# Altium footprint library TI - ADC.PcbLib: 213 footprints (part 8 of 14)
Each footprint in its own frame and in the unit in brackets; x right, y up, seen from the top. Pads: shape width x height; smd on the part's side, far side on the other; paste and mask are expansions set on the pad; w line width, h text height; cw(c..) or ccw(c..) is an arc to the next point about the centre after c.
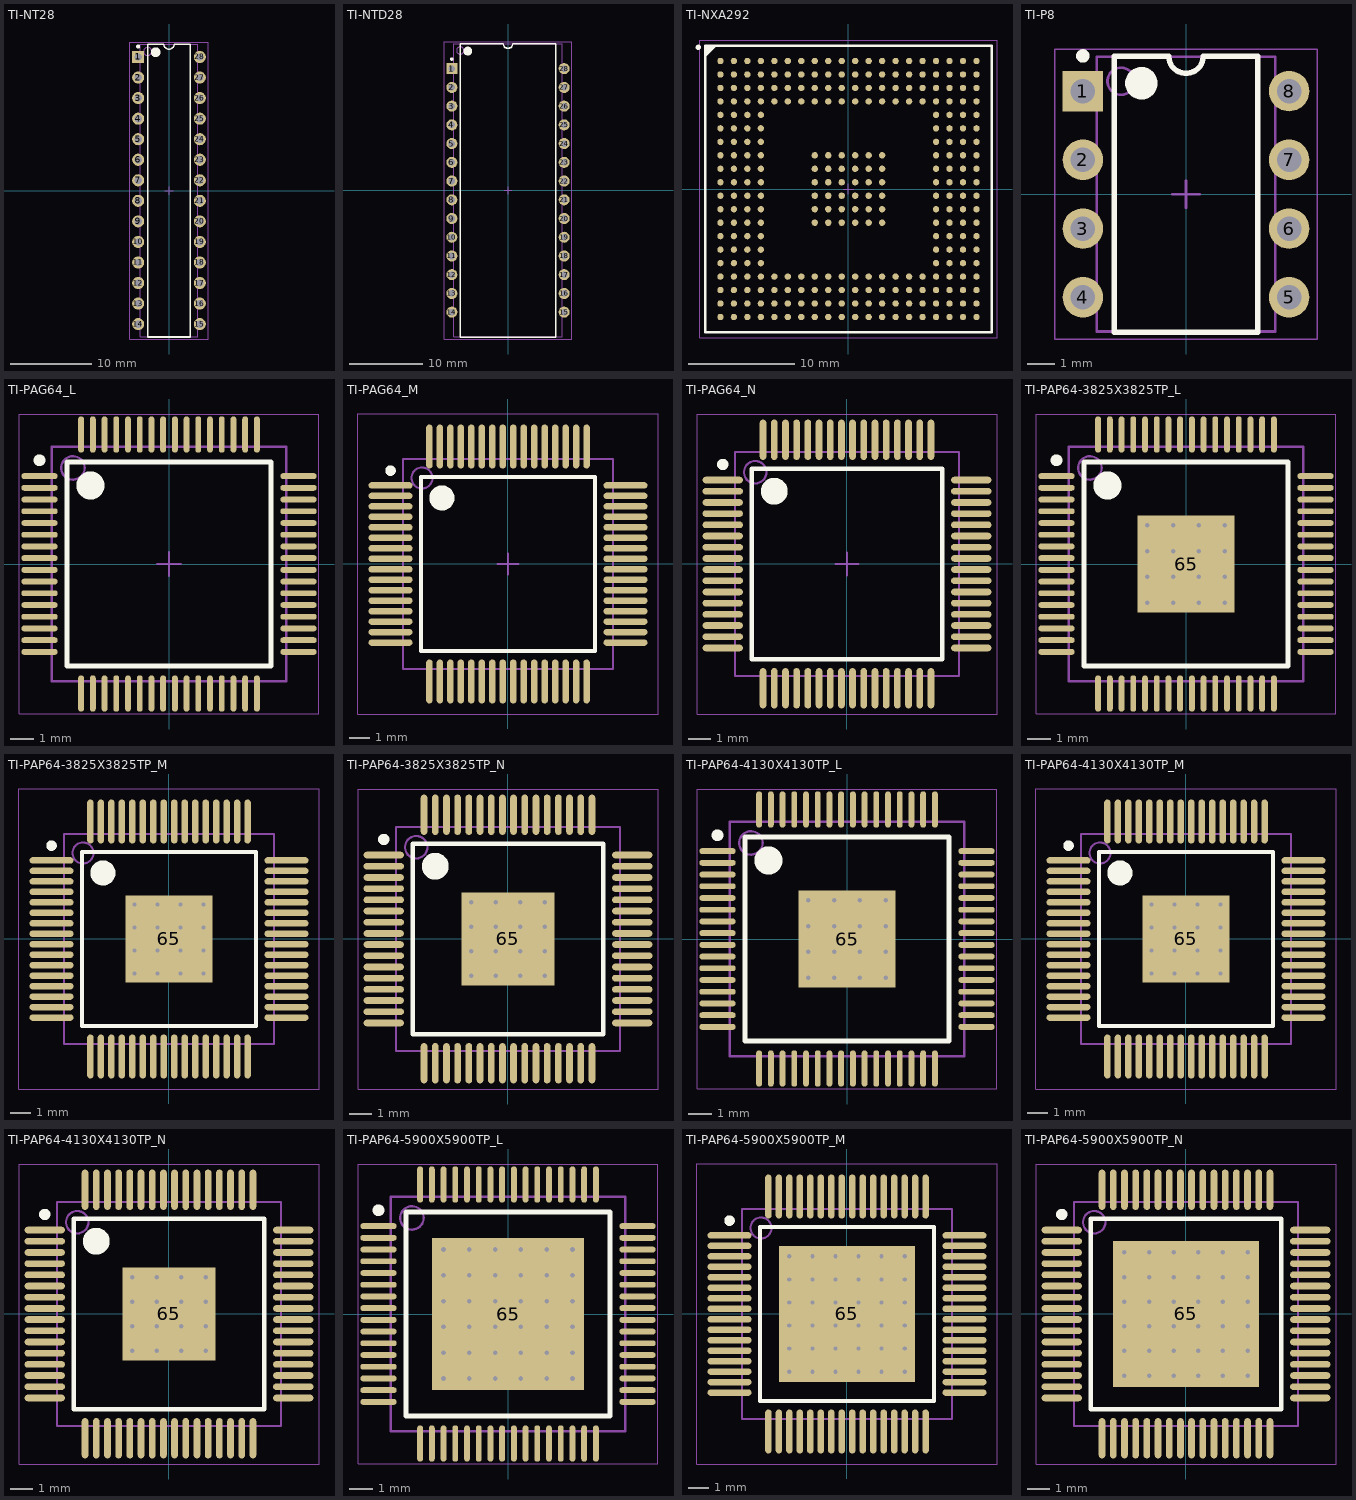
[diagram p7: the footprints below, top view; thin cyan lines are the x and y axes]

## TI-NT28 [mm] "DIP, 28-Leads, Body 35.69x6.73mm, Pitch 2.54mm"
height 5.08
pads (28):
  rect 1.5x1.5 hole 0.9: 1(-3.81,16.51)
  round 1.5 hole 0.9: 2(-3.81,13.97) 3(-3.81,11.43) 4(-3.81,8.89) 5(-3.81,6.35) 6(-3.81,3.81) 7(-3.81,1.27) 8(-3.81,-1.27) 9(-3.81,-3.81) 10(-3.81,-6.35) 11(-3.81,-8.89) 12(-3.81,-11.43) 13(-3.81,-13.97) 14(-3.81,-16.51) 15(3.81,-16.51) 16(3.81,-13.97) 17(3.81,-11.43) 18(3.81,-8.89) 19(3.81,-6.35) 20(3.81,-3.81) 21(3.81,-1.27) 22(3.81,1.27) 23(3.81,3.81) 24(3.81,6.35) 25(3.81,8.89) 26(3.81,11.43) 27(3.81,13.97) 28(3.81,16.51)
Top Overlay:
  circle w0.25: c-3.81,17.81 r0.125
  circle w0.6: c-1.65,17.1 r0.3
  lines w0.2: -2.65,-18.1 -2.65,18.1 -0.635,18.1 ccw(c0,18.1) 0.635,18.1 2.65,18.1 2.65,-18.1 -2.65,-18.1
Mechanical 13:
  circle w0.1: c-2.65,17.2 r0.5
  lines w0.1: -3.55,-18.1 -3.55,18.1 3.55,18.1 3.55,-18.1 -3.55,-18.1
Mechanical 15:
  lines w0.05: -4.85,-18.35 -4.85,18.35 4.85,18.35 4.85,-18.35 -4.85,-18.35
  lines w0.1: -0.5,0 0.5,0 ; 0,-0.5 0,0.5
3D body: height 2.66, standoff 0, extent -3.945,16.01 -3.675,17.01
3D body: height 2.93, standoff 2.66, extent -3.945,16.01 -3.55,17.01
3D body: height 0, standoff -1.6, extent -3.945,16.15 -3.675,16.87
3D body: height 2.66, standoff 0, extent -3.945,13.47 -3.675,14.47
3D body: height 2.93, standoff 2.66, extent -3.945,13.47 -3.55,14.47
3D body: height 0, standoff -1.6, extent -3.945,13.61 -3.675,14.33
3D body: height 2.66, standoff 0, extent -3.945,10.93 -3.675,11.93
3D body: height 2.93, standoff 2.66, extent -3.945,10.93 -3.55,11.93
3D body: height 0, standoff -1.6, extent -3.945,11.07 -3.675,11.79
3D body: height 2.66, standoff 0, extent -3.945,8.39 -3.675,9.39
3D body: height 2.93, standoff 2.66, extent -3.945,8.39 -3.55,9.39
3D body: height 0, standoff -1.6, extent -3.945,8.53 -3.675,9.25
3D body: height 2.66, standoff 0, extent -3.945,5.85 -3.675,6.85
3D body: height 2.93, standoff 2.66, extent -3.945,5.85 -3.55,6.85
3D body: height 0, standoff -1.6, extent -3.945,5.99 -3.675,6.71
3D body: height 2.66, standoff 0, extent -3.945,3.31 -3.675,4.31
3D body: height 2.93, standoff 2.66, extent -3.945,3.31 -3.55,4.31
3D body: height 0, standoff -1.6, extent -3.945,3.45 -3.675,4.17
3D body: height 2.66, standoff 0, extent -3.945,0.77 -3.675,1.77
3D body: height 2.93, standoff 2.66, extent -3.945,0.77 -3.55,1.77
3D body: height 0, standoff -1.6, extent -3.945,0.91 -3.675,1.63
3D body: height 2.66, standoff 0, extent -3.945,-1.77 -3.675,-0.77
3D body: height 2.93, standoff 2.66, extent -3.945,-1.77 -3.55,-0.77
3D body: height 0, standoff -1.6, extent -3.945,-1.63 -3.675,-0.91
3D body: height 2.66, standoff 0, extent -3.945,-4.31 -3.675,-3.31
3D body: height 2.93, standoff 2.66, extent -3.945,-4.31 -3.55,-3.31
3D body: height 0, standoff -1.6, extent -3.945,-4.17 -3.675,-3.45
3D body: height 2.66, standoff 0, extent -3.945,-6.85 -3.675,-5.85
3D body: height 2.93, standoff 2.66, extent -3.945,-6.85 -3.55,-5.85
3D body: height 0, standoff -1.6, extent -3.945,-6.71 -3.675,-5.99
3D body: height 2.66, standoff 0, extent -3.945,-9.39 -3.675,-8.39
3D body: height 2.93, standoff 2.66, extent -3.945,-9.39 -3.55,-8.39
3D body: height 0, standoff -1.6, extent -3.945,-9.25 -3.675,-8.53
3D body: height 2.66, standoff 0, extent -3.945,-11.93 -3.675,-10.93
3D body: height 2.93, standoff 2.66, extent -3.945,-11.93 -3.55,-10.93
3D body: height 0, standoff -1.6, extent -3.945,-11.79 -3.675,-11.07
3D body: height 2.66, standoff 0, extent -3.945,-14.47 -3.675,-13.47
3D body: height 2.93, standoff 2.66, extent -3.945,-14.47 -3.55,-13.47
3D body: height 0, standoff -1.6, extent -3.945,-14.33 -3.675,-13.61
3D body: height 2.66, standoff 0, extent -3.945,-17.01 -3.675,-16.01
3D body: height 2.93, standoff 2.66, extent -3.945,-17.01 -3.55,-16.01
3D body: height 0, standoff -1.6, extent -3.945,-16.87 -3.675,-16.15
3D body: height 2.66, standoff 0, extent 3.675,-17.01 3.945,-16.01
3D body: height 2.93, standoff 2.66, extent 3.55,-17.01 3.945,-16.01
3D body: height 0, standoff -1.6, extent 3.675,-16.87 3.945,-16.15
3D body: height 2.66, standoff 0, extent 3.675,-14.47 3.945,-13.47
3D body: height 2.93, standoff 2.66, extent 3.55,-14.47 3.945,-13.47
3D body: height 0, standoff -1.6, extent 3.675,-14.33 3.945,-13.61
3D body: height 2.66, standoff 0, extent 3.675,-11.93 3.945,-10.93
3D body: height 2.93, standoff 2.66, extent 3.55,-11.93 3.945,-10.93
3D body: height 0, standoff -1.6, extent 3.675,-11.79 3.945,-11.07
3D body: height 2.66, standoff 0, extent 3.675,-9.39 3.945,-8.39
3D body: height 2.93, standoff 2.66, extent 3.55,-9.39 3.945,-8.39
3D body: height 0, standoff -1.6, extent 3.675,-9.25 3.945,-8.53
3D body: height 2.66, standoff 0, extent 3.675,-6.85 3.945,-5.85
3D body: height 2.93, standoff 2.66, extent 3.55,-6.85 3.945,-5.85
3D body: height 0, standoff -1.6, extent 3.675,-6.71 3.945,-5.99
3D body: height 2.66, standoff 0, extent 3.675,-4.31 3.945,-3.31
3D body: height 2.93, standoff 2.66, extent 3.55,-4.31 3.945,-3.31
3D body: height 0, standoff -1.6, extent 3.675,-4.17 3.945,-3.45
3D body: height 2.66, standoff 0, extent 3.675,-1.77 3.945,-0.77
3D body: height 2.93, standoff 2.66, extent 3.55,-1.77 3.945,-0.77
3D body: height 0, standoff -1.6, extent 3.675,-1.63 3.945,-0.91
3D body: height 2.66, standoff 0, extent 3.675,0.77 3.945,1.77
3D body: height 2.93, standoff 2.66, extent 3.55,0.77 3.945,1.77
3D body: height 0, standoff -1.6, extent 3.675,0.91 3.945,1.63
3D body: height 2.66, standoff 0, extent 3.675,3.31 3.945,4.31
3D body: height 2.93, standoff 2.66, extent 3.55,3.31 3.945,4.31
3D body: height 0, standoff -1.6, extent 3.675,3.45 3.945,4.17
3D body: height 2.66, standoff 0, extent 3.675,5.85 3.945,6.85
3D body: height 2.93, standoff 2.66, extent 3.55,5.85 3.945,6.85
3D body: height 0, standoff -1.6, extent 3.675,5.99 3.945,6.71
3D body: height 2.66, standoff 0, extent 3.675,8.39 3.945,9.39
3D body: height 2.93, standoff 2.66, extent 3.55,8.39 3.945,9.39
3D body: height 0, standoff -1.6, extent 3.675,8.53 3.945,9.25
3D body: height 2.66, standoff 0, extent 3.675,10.93 3.945,11.93
3D body: height 2.93, standoff 2.66, extent 3.55,10.93 3.945,11.93
3D body: height 0, standoff -1.6, extent 3.675,11.07 3.945,11.79
3D body: height 2.66, standoff 0, extent 3.675,13.47 3.945,14.47
3D body: height 2.93, standoff 2.66, extent 3.55,13.47 3.945,14.47
3D body: height 0, standoff -1.6, extent 3.675,13.61 3.945,14.33
3D body: height 2.66, standoff 0, extent 3.675,16.01 3.945,17.01
3D body: height 2.93, standoff 2.66, extent 3.55,16.01 3.945,17.01
3D body: height 0, standoff -1.6, extent 3.675,16.15 3.945,16.87
3D body: height 5.08, standoff 0.51, extent -3.55,-18.1 3.55,18.1

## TI-NTD28 [mm] "DIP, 28-Leads, Body 37.4x13.525mm, Pitch 2.54mm"
height 6.35
pads (28):
  rect 1.5x1.5 hole 0.9: 1(-7.62,16.51)
  round 1.5 hole 0.9: 2(-7.62,13.97) 3(-7.62,11.43) 4(-7.62,8.89) 5(-7.62,6.35) 6(-7.62,3.81) 7(-7.62,1.27) 8(-7.62,-1.27) 9(-7.62,-3.81) 10(-7.62,-6.35) 11(-7.62,-8.89) 12(-7.62,-11.43) 13(-7.62,-13.97) 14(-7.62,-16.51) 15(7.62,-16.51) 16(7.62,-13.97) 17(7.62,-11.43) 18(7.62,-8.89) 19(7.62,-6.35) 20(7.62,-3.81) 21(7.62,-1.27) 22(7.62,1.27) 23(7.62,3.81) 24(7.62,6.35) 25(7.62,8.89) 26(7.62,11.43) 27(7.62,13.97) 28(7.62,16.51)
Top Overlay:
  circle w0.25: c-7.62,17.81 r0.125
  circle w0.6: c-5.45,18.9 r0.3
  lines w0.2: -6.45,-19.9 -6.45,19.9 -0.635,19.9 ccw(c0,19.9) 0.635,19.9 6.45,19.9 6.45,-19.9 -6.45,-19.9
Mechanical 13:
  circle w0.1: c-6.475,18.975 r0.5
  lines w0.1: -7.375,-19.875 -7.375,19.875 7.375,19.875 7.375,-19.875 -7.375,-19.875
Mechanical 15:
  lines w0.05: -8.65,-20.15 -8.65,20.15 8.65,20.15 8.65,-20.15 -8.65,-20.15
  lines w0.1: -0.5,0 0.5,0 ; 0,-0.5 0,0.5
3D body: height 3.24, standoff 0, extent -7.755,16.01 -7.485,17.01
3D body: height 3.51, standoff 3.23, extent -7.755,16.01 -7.375,17.01
3D body: height 0, standoff -1.6, extent -7.755,16.15 -7.485,16.87
3D body: height 3.24, standoff 0, extent -7.755,13.47 -7.485,14.47
3D body: height 3.51, standoff 3.23, extent -7.755,13.47 -7.375,14.47
3D body: height 0, standoff -1.6, extent -7.755,13.61 -7.485,14.33
3D body: height 3.24, standoff 0, extent -7.755,10.93 -7.485,11.93
3D body: height 3.51, standoff 3.23, extent -7.755,10.93 -7.375,11.93
3D body: height 0, standoff -1.6, extent -7.755,11.07 -7.485,11.79
3D body: height 3.24, standoff 0, extent -7.755,8.39 -7.485,9.39
3D body: height 3.51, standoff 3.23, extent -7.755,8.39 -7.375,9.39
3D body: height 0, standoff -1.6, extent -7.755,8.53 -7.485,9.25
3D body: height 3.24, standoff 0, extent -7.755,5.85 -7.485,6.85
3D body: height 3.51, standoff 3.23, extent -7.755,5.85 -7.375,6.85
3D body: height 0, standoff -1.6, extent -7.755,5.99 -7.485,6.71
3D body: height 3.24, standoff 0, extent -7.755,3.31 -7.485,4.31
3D body: height 3.51, standoff 3.23, extent -7.755,3.31 -7.375,4.31
3D body: height 0, standoff -1.6, extent -7.755,3.45 -7.485,4.17
3D body: height 3.24, standoff 0, extent -7.755,0.77 -7.485,1.77
3D body: height 3.51, standoff 3.23, extent -7.755,0.77 -7.375,1.77
3D body: height 0, standoff -1.6, extent -7.755,0.91 -7.485,1.63
3D body: height 3.24, standoff 0, extent -7.755,-1.77 -7.485,-0.77
3D body: height 3.51, standoff 3.23, extent -7.755,-1.77 -7.375,-0.77
3D body: height 0, standoff -1.6, extent -7.755,-1.63 -7.485,-0.91
3D body: height 3.24, standoff 0, extent -7.755,-4.31 -7.485,-3.31
3D body: height 3.51, standoff 3.23, extent -7.755,-4.31 -7.375,-3.31
3D body: height 0, standoff -1.6, extent -7.755,-4.17 -7.485,-3.45
3D body: height 3.24, standoff 0, extent -7.755,-6.85 -7.485,-5.85
3D body: height 3.51, standoff 3.23, extent -7.755,-6.85 -7.375,-5.85
3D body: height 0, standoff -1.6, extent -7.755,-6.71 -7.485,-5.99
3D body: height 3.24, standoff 0, extent -7.755,-9.39 -7.485,-8.39
3D body: height 3.51, standoff 3.23, extent -7.755,-9.39 -7.375,-8.39
3D body: height 0, standoff -1.6, extent -7.755,-9.25 -7.485,-8.53
3D body: height 3.24, standoff 0, extent -7.755,-11.93 -7.485,-10.93
3D body: height 3.51, standoff 3.23, extent -7.755,-11.93 -7.375,-10.93
3D body: height 0, standoff -1.6, extent -7.755,-11.79 -7.485,-11.07
3D body: height 3.24, standoff 0, extent -7.755,-14.47 -7.485,-13.47
3D body: height 3.51, standoff 3.23, extent -7.755,-14.47 -7.375,-13.47
3D body: height 0, standoff -1.6, extent -7.755,-14.33 -7.485,-13.61
3D body: height 3.24, standoff 0, extent -7.755,-17.01 -7.485,-16.01
3D body: height 3.51, standoff 3.23, extent -7.755,-17.01 -7.375,-16.01
3D body: height 0, standoff -1.6, extent -7.755,-16.87 -7.485,-16.15
3D body: height 3.24, standoff 0, extent 7.485,-17.01 7.755,-16.01
3D body: height 3.51, standoff 3.23, extent 7.375,-17.01 7.755,-16.01
3D body: height 0, standoff -1.6, extent 7.485,-16.87 7.755,-16.15
3D body: height 3.24, standoff 0, extent 7.485,-14.47 7.755,-13.47
3D body: height 3.51, standoff 3.23, extent 7.375,-14.47 7.755,-13.47
3D body: height 0, standoff -1.6, extent 7.485,-14.33 7.755,-13.61
3D body: height 3.24, standoff 0, extent 7.485,-11.93 7.755,-10.93
3D body: height 3.51, standoff 3.23, extent 7.375,-11.93 7.755,-10.93
3D body: height 0, standoff -1.6, extent 7.485,-11.79 7.755,-11.07
3D body: height 3.24, standoff 0, extent 7.485,-9.39 7.755,-8.39
3D body: height 3.51, standoff 3.23, extent 7.375,-9.39 7.755,-8.39
3D body: height 0, standoff -1.6, extent 7.485,-9.25 7.755,-8.53
3D body: height 3.24, standoff 0, extent 7.485,-6.85 7.755,-5.85
3D body: height 3.51, standoff 3.23, extent 7.375,-6.85 7.755,-5.85
3D body: height 0, standoff -1.6, extent 7.485,-6.71 7.755,-5.99
3D body: height 3.24, standoff 0, extent 7.485,-4.31 7.755,-3.31
3D body: height 3.51, standoff 3.23, extent 7.375,-4.31 7.755,-3.31
3D body: height 0, standoff -1.6, extent 7.485,-4.17 7.755,-3.45
3D body: height 3.24, standoff 0, extent 7.485,-1.77 7.755,-0.77
3D body: height 3.51, standoff 3.23, extent 7.375,-1.77 7.755,-0.77
3D body: height 0, standoff -1.6, extent 7.485,-1.63 7.755,-0.91
3D body: height 3.24, standoff 0, extent 7.485,0.77 7.755,1.77
3D body: height 3.51, standoff 3.23, extent 7.375,0.77 7.755,1.77
3D body: height 0, standoff -1.6, extent 7.485,0.91 7.755,1.63
3D body: height 3.24, standoff 0, extent 7.485,3.31 7.755,4.31
3D body: height 3.51, standoff 3.23, extent 7.375,3.31 7.755,4.31
3D body: height 0, standoff -1.6, extent 7.485,3.45 7.755,4.17
3D body: height 3.24, standoff 0, extent 7.485,5.85 7.755,6.85
3D body: height 3.51, standoff 3.23, extent 7.375,5.85 7.755,6.85
3D body: height 0, standoff -1.6, extent 7.485,5.99 7.755,6.71
3D body: height 3.24, standoff 0, extent 7.485,8.39 7.755,9.39
3D body: height 3.51, standoff 3.23, extent 7.375,8.39 7.755,9.39
3D body: height 0, standoff -1.6, extent 7.485,8.53 7.755,9.25
3D body: height 3.24, standoff 0, extent 7.485,10.93 7.755,11.93
3D body: height 3.51, standoff 3.23, extent 7.375,10.93 7.755,11.93
3D body: height 0, standoff -1.6, extent 7.485,11.07 7.755,11.79
3D body: height 3.24, standoff 0, extent 7.485,13.47 7.755,14.47
3D body: height 3.51, standoff 3.23, extent 7.375,13.47 7.755,14.47
3D body: height 0, standoff -1.6, extent 7.485,13.61 7.755,14.33
3D body: height 3.24, standoff 0, extent 7.485,16.01 7.755,17.01
3D body: height 3.51, standoff 3.23, extent 7.375,16.01 7.755,17.01
3D body: height 0, standoff -1.6, extent 7.485,16.15 7.755,16.87
3D body: height 6.35, standoff 0.38, extent -7.375,-19.875 7.375,19.875

## TI-NXA292 [mm] "BGA, 292-Balls, Body 27x27mm, Pitch 1.27mm"
height 2.58
pads (292):
  round 0.6 smd: A1(-12.065,12.065) A2(-10.795,12.065) A3(-9.525,12.065) A4(-8.255,12.065) A5(-6.985,12.065) A6(-5.715,12.065) A7(-4.445,12.065) A8(-3.175,12.065) A9(-1.905,12.065) A10(-0.635,12.065) A11(0.635,12.065) A12(1.905,12.065) A13(3.175,12.065) A14(4.445,12.065) A15(5.715,12.065) A16(6.985,12.065) A17(8.255,12.065) A18(9.525,12.065) A19(10.795,12.065) A20(12.065,12.065) B1(-12.065,10.795) B2(-10.795,10.795) B3(-9.525,10.795) B4(-8.255,10.795) B5(-6.985,10.795) B6(-5.715,10.795) B7(-4.445,10.795) B8(-3.175,10.795) B9(-1.905,10.795) B10(-0.635,10.795) B11(0.635,10.795) B12(1.905,10.795) B13(3.175,10.795) B14(4.445,10.795) B15(5.715,10.795) B16(6.985,10.795) B17(8.255,10.795) B18(9.525,10.795) B19(10.795,10.795) B20(12.065,10.795) C1(-12.065,9.525) C2(-10.795,9.525) C3(-9.525,9.525) C4(-8.255,9.525) C5(-6.985,9.525) C6(-5.715,9.525) C7(-4.445,9.525) C8(-3.175,9.525) C9(-1.905,9.525) C10(-0.635,9.525) C11(0.635,9.525) C12(1.905,9.525) C13(3.175,9.525) C14(4.445,9.525) C15(5.715,9.525) C16(6.985,9.525) C17(8.255,9.525) C18(9.525,9.525) C19(10.795,9.525) C20(12.065,9.525) D1(-12.065,8.255) D2(-10.795,8.255) D3(-9.525,8.255) D4(-8.255,8.255) D5(-6.985,8.255) D6(-5.715,8.255) D7(-4.445,8.255) D8(-3.175,8.255) D9(-1.905,8.255) D10(-0.635,8.255) D11(0.635,8.255) D12(1.905,8.255) D13(3.175,8.255) D14(4.445,8.255) D15(5.715,8.255) D16(6.985,8.255) D17(8.255,8.255) D18(9.525,8.255) D19(10.795,8.255) D20(12.065,8.255) E1(-12.065,6.985) E2(-10.795,6.985) E3(-9.525,6.985) E4(-8.255,6.985) E17(8.255,6.985) E18(9.525,6.985) E19(10.795,6.985) E20(12.065,6.985) F1(-12.065,5.715) F2(-10.795,5.715) F3(-9.525,5.715) F4(-8.255,5.715) F17(8.255,5.715) F18(9.525,5.715) F19(10.795,5.715) F20(12.065,5.715) G1(-12.065,4.445) G2(-10.795,4.445) G3(-9.525,4.445) G4(-8.255,4.445) G17(8.255,4.445) G18(9.525,4.445) G19(10.795,4.445) G20(12.065,4.445) H1(-12.065,3.175) H2(-10.795,3.175) H3(-9.525,3.175) H4(-8.255,3.175) H8(-3.175,3.175) H9(-1.905,3.175) H10(-0.635,3.175) H11(0.635,3.175) H12(1.905,3.175) H13(3.175,3.175) H17(8.255,3.175) H18(9.525,3.175) H19(10.795,3.175) H20(12.065,3.175) J1(-12.065,1.905) J2(-10.795,1.905) J3(-9.525,1.905) J4(-8.255,1.905) J8(-3.175,1.905) J9(-1.905,1.905) J10(-0.635,1.905) J11(0.635,1.905) J12(1.905,1.905) J13(3.175,1.905) J17(8.255,1.905) J18(9.525,1.905) J19(10.795,1.905) J20(12.065,1.905) K1(-12.065,0.635) K2(-10.795,0.635) K3(-9.525,0.635) K4(-8.255,0.635) K8(-3.175,0.635) K9(-1.905,0.635) K10(-0.635,0.635) K11(0.635,0.635) K12(1.905,0.635) K13(3.175,0.635) K17(8.255,0.635) K18(9.525,0.635) K19(10.795,0.635) K20(12.065,0.635) L1(-12.065,-0.635) L2(-10.795,-0.635) L3(-9.525,-0.635) L4(-8.255,-0.635) L8(-3.175,-0.635) L9(-1.905,-0.635) L10(-0.635,-0.635) L11(0.635,-0.635) L12(1.905,-0.635) L13(3.175,-0.635) L17(8.255,-0.635) L18(9.525,-0.635) L19(10.795,-0.635) L20(12.065,-0.635) M1(-12.065,-1.905) M2(-10.795,-1.905) M3(-9.525,-1.905) M4(-8.255,-1.905) M8(-3.175,-1.905) M9(-1.905,-1.905) M10(-0.635,-1.905) M11(0.635,-1.905) M12(1.905,-1.905) M13(3.175,-1.905) M17(8.255,-1.905) M18(9.525,-1.905) M19(10.795,-1.905) M20(12.065,-1.905) N1(-12.065,-3.175) N2(-10.795,-3.175) N3(-9.525,-3.175) N4(-8.255,-3.175) N8(-3.175,-3.175) N9(-1.905,-3.175) N10(-0.635,-3.175) N11(0.635,-3.175) N12(1.905,-3.175) N13(3.175,-3.175) N17(8.255,-3.175) N18(9.525,-3.175) N19(10.795,-3.175) N20(12.065,-3.175) P1(-12.065,-4.445) P2(-10.795,-4.445) P3(-9.525,-4.445) P4(-8.255,-4.445) P17(8.255,-4.445) P18(9.525,-4.445) P19(10.795,-4.445) P20(12.065,-4.445) R1(-12.065,-5.715) R2(-10.795,-5.715) R3(-9.525,-5.715) R4(-8.255,-5.715) R17(8.255,-5.715) R18(9.525,-5.715) R19(10.795,-5.715) R20(12.065,-5.715) T1(-12.065,-6.985) T2(-10.795,-6.985) T3(-9.525,-6.985) T4(-8.255,-6.985) T17(8.255,-6.985) T18(9.525,-6.985) T19(10.795,-6.985) T20(12.065,-6.985) U1(-12.065,-8.255) U2(-10.795,-8.255) U3(-9.525,-8.255) U4(-8.255,-8.255) U5(-6.985,-8.255) U6(-5.715,-8.255) U7(-4.445,-8.255) U8(-3.175,-8.255) U9(-1.905,-8.255) U10(-0.635,-8.255) U11(0.635,-8.255) U12(1.905,-8.255) U13(3.175,-8.255) U14(4.445,-8.255) U15(5.715,-8.255) U16(6.985,-8.255) U17(8.255,-8.255) U18(9.525,-8.255) U19(10.795,-8.255) U20(12.065,-8.255) V1(-12.065,-9.525) V2(-10.795,-9.525) V3(-9.525,-9.525) V4(-8.255,-9.525) V5(-6.985,-9.525) V6(-5.715,-9.525) V7(-4.445,-9.525) V8(-3.175,-9.525) V9(-1.905,-9.525) V10(-0.635,-9.525) V11(0.635,-9.525) V12(1.905,-9.525) V13(3.175,-9.525) V14(4.445,-9.525) V15(5.715,-9.525) V16(6.985,-9.525) V17(8.255,-9.525) V18(9.525,-9.525) V19(10.795,-9.525) V20(12.065,-9.525) W1(-12.065,-10.795) W2(-10.795,-10.795) W3(-9.525,-10.795) W4(-8.255,-10.795) W5(-6.985,-10.795) W6(-5.715,-10.795) W7(-4.445,-10.795) W8(-3.175,-10.795) W9(-1.905,-10.795) W10(-0.635,-10.795) W11(0.635,-10.795) W12(1.905,-10.795) W13(3.175,-10.795) W14(4.445,-10.795) W15(5.715,-10.795) W16(6.985,-10.795) W17(8.255,-10.795) W18(9.525,-10.795) W19(10.795,-10.795) W20(12.065,-10.795) Y1(-12.065,-12.065) Y2(-10.795,-12.065) Y3(-9.525,-12.065) Y4(-8.255,-12.065) Y5(-6.985,-12.065) Y6(-5.715,-12.065) Y7(-4.445,-12.065) Y8(-3.175,-12.065) Y9(-1.905,-12.065) Y10(-0.635,-12.065) Y11(0.635,-12.065) Y12(1.905,-12.065) Y13(3.175,-12.065) Y14(4.445,-12.065) Y15(5.715,-12.065) Y16(6.985,-12.065) Y17(8.255,-12.065) Y18(9.525,-12.065) Y19(10.795,-12.065) Y20(12.065,-12.065)
Top Overlay:
  circle w0.25: c-14.15,13.35 r0.125
  region: -12.5,13.5 -13.5,12.5 -13.5,13.5
  lines w0.2: -13.5,12.5 -12.5,13.5 ; -13.5,-13.5 13.5,-13.5 13.5,13.5 -13.5,13.5 -13.5,-13.5
Mechanical 13:
  lines w0.1: -13.5,-13.5 13.5,-13.5 13.5,13.5 -13.5,13.5 -13.5,-13.5
Mechanical 15:
  lines w0.05: -14,-14 14,-14 14,14 -14,14 -14,-14
  lines w0.1: -0.5,0 0.5,0 ; 0,-0.5 0,0.5
3D body: height 2.58, standoff 0.5, extent -13.5,-13.5 13.5,13.5

## TI-P8 [mm] "DIP, 8-Leads, Body 9.59x6.35mm, Pitch 2.54mm"
height 5.08
pads (8):
  rect 1.5x1.5 hole 0.9: 1(-3.81,3.81)
  round 1.5 hole 0.9: 2(-3.81,1.27) 3(-3.81,-1.27) 4(-3.81,-3.81) 5(3.81,-3.81) 6(3.81,-1.27) 7(3.81,1.27) 8(3.81,3.81)
Top Overlay:
  circle w0.25: c-3.81,5.11 r0.125
  circle w0.6: c-1.65,4.1 r0.3
  lines w0.2: -2.65,-5.1 -2.65,5.1 -0.635,5.1 ccw(c0,5.1) 0.635,5.1 2.65,5.1 2.65,-5.1 -2.65,-5.1
Mechanical 13:
  circle w0.1: c-2.4,4.175 r0.5
  lines w0.1: -3.3,-5.075 -3.3,5.075 3.3,5.075 3.3,-5.075 -3.3,-5.075
Mechanical 15:
  lines w0.05: -4.85,-5.35 -4.85,5.35 4.85,5.35 4.85,-5.35 -4.85,-5.35
  lines w0.1: -0.5,0 0.5,0 ; 0,-0.5 0,0.5
3D body: height 2.66, standoff 0, extent -3.945,3.31 -3.675,4.31
3D body: height 2.93, standoff 2.66, extent -3.945,3.31 -3.3,4.31
3D body: height 0, standoff -1.6, extent -3.945,3.45 -3.675,4.17
3D body: height 2.66, standoff 0, extent -3.945,0.77 -3.675,1.77
3D body: height 2.93, standoff 2.66, extent -3.945,0.77 -3.3,1.77
3D body: height 0, standoff -1.6, extent -3.945,0.91 -3.675,1.63
3D body: height 2.66, standoff 0, extent -3.945,-1.77 -3.675,-0.77
3D body: height 2.93, standoff 2.66, extent -3.945,-1.77 -3.3,-0.77
3D body: height 0, standoff -1.6, extent -3.945,-1.63 -3.675,-0.91
3D body: height 2.66, standoff 0, extent -3.945,-4.31 -3.675,-3.31
3D body: height 2.93, standoff 2.66, extent -3.945,-4.31 -3.3,-3.31
3D body: height 0, standoff -1.6, extent -3.945,-4.17 -3.675,-3.45
3D body: height 2.66, standoff 0, extent 3.675,-4.31 3.945,-3.31
3D body: height 2.93, standoff 2.66, extent 3.3,-4.31 3.945,-3.31
3D body: height 0, standoff -1.6, extent 3.675,-4.17 3.945,-3.45
3D body: height 2.66, standoff 0, extent 3.675,-1.77 3.945,-0.77
3D body: height 2.93, standoff 2.66, extent 3.3,-1.77 3.945,-0.77
3D body: height 0, standoff -1.6, extent 3.675,-1.63 3.945,-0.91
3D body: height 2.66, standoff 0, extent 3.675,0.77 3.945,1.77
3D body: height 2.93, standoff 2.66, extent 3.3,0.77 3.945,1.77
3D body: height 0, standoff -1.6, extent 3.675,0.91 3.945,1.63
3D body: height 2.66, standoff 0, extent 3.675,3.31 3.945,4.31
3D body: height 2.93, standoff 2.66, extent 3.3,3.31 3.945,4.31
3D body: height 0, standoff -1.6, extent 3.675,3.45 3.945,4.17
3D body: height 5.08, standoff 0.51, extent -3.3,-5.075 3.3,5.075

## TI-PAG64_L [mm] "QFP, 64-Leads, Body 10x10mm, Pitch 0.5mm, IPC High Density"
height 1.2
pads (64):
  oval 1.55x0.25 smd: 1(-5.525,3.75) 2(-5.525,3.25) 3(-5.525,2.75) 4(-5.525,2.25) 5(-5.525,1.75) 6(-5.525,1.25) 7(-5.525,0.75) 8(-5.525,0.25) 9(-5.525,-0.25) 10(-5.525,-0.75) 11(-5.525,-1.25) 12(-5.525,-1.75) 13(-5.525,-2.25) 14(-5.525,-2.75) 15(-5.525,-3.25) 16(-5.525,-3.75) 33(5.525,-3.75) 34(5.525,-3.25) 35(5.525,-2.75) 36(5.525,-2.25) 37(5.525,-1.75) 38(5.525,-1.25) 39(5.525,-0.75) 40(5.525,-0.25) 41(5.525,0.25) 42(5.525,0.75) 43(5.525,1.25) 44(5.525,1.75) 45(5.525,2.25) 46(5.525,2.75) 47(5.525,3.25) 48(5.525,3.75)
  oval 0.25x1.55 smd: 17(-3.75,-5.525) 18(-3.25,-5.525) 19(-2.75,-5.525) 20(-2.25,-5.525) 21(-1.75,-5.525) 22(-1.25,-5.525) 23(-0.75,-5.525) 24(-0.25,-5.525) 25(0.25,-5.525) 26(0.75,-5.525) 27(1.25,-5.525) 28(1.75,-5.525) 29(2.25,-5.525) 30(2.75,-5.525) 31(3.25,-5.525) 32(3.75,-5.525) 49(3.75,5.525) 50(3.25,5.525) 51(2.75,5.525) 52(2.25,5.525) 53(1.75,5.525) 54(1.25,5.525) 55(0.75,5.525) 56(0.25,5.525) 57(-0.25,5.525) 58(-0.75,5.525) 59(-1.25,5.525) 60(-1.75,5.525) 61(-2.25,5.525) 62(-2.75,5.525) 63(-3.25,5.525) 64(-3.75,5.525)
Top Overlay:
  circle w0.25: c-5.525,4.425 r0.125
  circle w0.6: c-3.35,3.35 r0.3
  lines w0.2: -4.35,-4.35 -4.35,4.35 4.35,4.35 4.35,-4.35 -4.35,-4.35
Mechanical 13:
  circle w0.1: c-4.1,4.1 r0.5
  lines w0.1: -5,-5 -5,5 5,5 5,-5 -5,-5
Mechanical 15:
  lines w0.05: -6.4,-6.4 -6.4,6.4 6.4,6.4 6.4,-6.4 -6.4,-6.4
  lines w0.1: -0.5,0 0.5,0 ; 0,-0.5 0,0.5
3D body: height 1.2, standoff 0.05, extent -5,-5 5,5

## TI-PAG64_M [mm] "QFP, 64-Leads, Body 10x10mm, Pitch 0.5mm, IPC Low Density"
height 1.2
pads (64):
  oval 2.1x0.3 smd: 1(-5.6,3.75) 2(-5.6,3.25) 3(-5.6,2.75) 4(-5.6,2.25) 5(-5.6,1.75) 6(-5.6,1.25) 7(-5.6,0.75) 8(-5.6,0.25) 9(-5.6,-0.25) 10(-5.6,-0.75) 11(-5.6,-1.25) 12(-5.6,-1.75) 13(-5.6,-2.25) 14(-5.6,-2.75) 15(-5.6,-3.25) 16(-5.6,-3.75) 33(5.6,-3.75) 34(5.6,-3.25) 35(5.6,-2.75) 36(5.6,-2.25) 37(5.6,-1.75) 38(5.6,-1.25) 39(5.6,-0.75) 40(5.6,-0.25) 41(5.6,0.25) 42(5.6,0.75) 43(5.6,1.25) 44(5.6,1.75) 45(5.6,2.25) 46(5.6,2.75) 47(5.6,3.25) 48(5.6,3.75)
  oval 0.3x2.1 smd: 17(-3.75,-5.6) 18(-3.25,-5.6) 19(-2.75,-5.6) 20(-2.25,-5.6) 21(-1.75,-5.6) 22(-1.25,-5.6) 23(-0.75,-5.6) 24(-0.25,-5.6) 25(0.25,-5.6) 26(0.75,-5.6) 27(1.25,-5.6) 28(1.75,-5.6) 29(2.25,-5.6) 30(2.75,-5.6) 31(3.25,-5.6) 32(3.75,-5.6) 49(3.75,5.6) 50(3.25,5.6) 51(2.75,5.6) 52(2.25,5.6) 53(1.75,5.6) 54(1.25,5.6) 55(0.75,5.6) 56(0.25,5.6) 57(-0.25,5.6) 58(-0.75,5.6) 59(-1.25,5.6) 60(-1.75,5.6) 61(-2.25,5.6) 62(-2.75,5.6) 63(-3.25,5.6) 64(-3.75,5.6)
Top Overlay:
  circle w0.25: c-5.6,4.45 r0.125
  circle w0.6: c-3.15,3.15 r0.3
  lines w0.2: -4.15,-4.15 -4.15,4.15 4.15,4.15 4.15,-4.15 -4.15,-4.15
Mechanical 13:
  circle w0.1: c-4.1,4.1 r0.5
  lines w0.1: -5,-5 -5,5 5,5 5,-5 -5,-5
Mechanical 15:
  lines w0.05: -7.15,-7.15 -7.15,7.15 7.15,7.15 7.15,-7.15 -7.15,-7.15
  lines w0.1: -0.5,0 0.5,0 ; 0,-0.5 0,0.5
3D body: height 1.2, standoff 0.05, extent -5,-5 5,5

## TI-PAG64_N [mm] "QFP, 64-Leads, Body 10x10mm, Pitch 0.5mm, IPC Medium Density"
height 1.2
pads (64):
  oval 1.8x0.3 smd: 1(-5.55,3.75) 2(-5.55,3.25) 3(-5.55,2.75) 4(-5.55,2.25) 5(-5.55,1.75) 6(-5.55,1.25) 7(-5.55,0.75) 8(-5.55,0.25) 9(-5.55,-0.25) 10(-5.55,-0.75) 11(-5.55,-1.25) 12(-5.55,-1.75) 13(-5.55,-2.25) 14(-5.55,-2.75) 15(-5.55,-3.25) 16(-5.55,-3.75) 33(5.55,-3.75) 34(5.55,-3.25) 35(5.55,-2.75) 36(5.55,-2.25) 37(5.55,-1.75) 38(5.55,-1.25) 39(5.55,-0.75) 40(5.55,-0.25) 41(5.55,0.25) 42(5.55,0.75) 43(5.55,1.25) 44(5.55,1.75) 45(5.55,2.25) 46(5.55,2.75) 47(5.55,3.25) 48(5.55,3.75)
  oval 0.3x1.8 smd: 17(-3.75,-5.55) 18(-3.25,-5.55) 19(-2.75,-5.55) 20(-2.25,-5.55) 21(-1.75,-5.55) 22(-1.25,-5.55) 23(-0.75,-5.55) 24(-0.25,-5.55) 25(0.25,-5.55) 26(0.75,-5.55) 27(1.25,-5.55) 28(1.75,-5.55) 29(2.25,-5.55) 30(2.75,-5.55) 31(3.25,-5.55) 32(3.75,-5.55) 49(3.75,5.55) 50(3.25,5.55) 51(2.75,5.55) 52(2.25,5.55) 53(1.75,5.55) 54(1.25,5.55) 55(0.75,5.55) 56(0.25,5.55) 57(-0.25,5.55) 58(-0.75,5.55) 59(-1.25,5.55) 60(-1.75,5.55) 61(-2.25,5.55) 62(-2.75,5.55) 63(-3.25,5.55) 64(-3.75,5.55)
Top Overlay:
  circle w0.25: c-5.55,4.45 r0.125
  circle w0.6: c-3.25,3.25 r0.3
  lines w0.2: -4.25,-4.25 -4.25,4.25 4.25,4.25 4.25,-4.25 -4.25,-4.25
Mechanical 13:
  circle w0.1: c-4.1,4.1 r0.5
  lines w0.1: -5,-5 -5,5 5,5 5,-5 -5,-5
Mechanical 15:
  lines w0.05: -6.7,-6.7 -6.7,6.7 6.7,6.7 6.7,-6.7 -6.7,-6.7
  lines w0.1: -0.5,0 0.5,0 ; 0,-0.5 0,0.5
3D body: height 1.2, standoff 0.05, extent -5,-5 5,5

## TI-PAP64-3825X3825TP_L [mm] "QFP, 64-Leads, Body 10x10mm, Pitch 0.5mm, Thermal Pad 4.15x4.15mm, IPC High Density"
height 1.2
pads (65):
  oval 1.55x0.25 smd: 1(-5.525,3.75) 2(-5.525,3.25) 3(-5.525,2.75) 4(-5.525,2.25) 5(-5.525,1.75) 6(-5.525,1.25) 7(-5.525,0.75) 8(-5.525,0.25) 9(-5.525,-0.25) 10(-5.525,-0.75) 11(-5.525,-1.25) 12(-5.525,-1.75) 13(-5.525,-2.25) 14(-5.525,-2.75) 15(-5.525,-3.25) 16(-5.525,-3.75) 33(5.525,-3.75) 34(5.525,-3.25) 35(5.525,-2.75) 36(5.525,-2.25) 37(5.525,-1.75) 38(5.525,-1.25) 39(5.525,-0.75) 40(5.525,-0.25) 41(5.525,0.25) 42(5.525,0.75) 43(5.525,1.25) 44(5.525,1.75) 45(5.525,2.25) 46(5.525,2.75) 47(5.525,3.25) 48(5.525,3.75)
  oval 0.25x1.55 smd: 17(-3.75,-5.525) 18(-3.25,-5.525) 19(-2.75,-5.525) 20(-2.25,-5.525) 21(-1.75,-5.525) 22(-1.25,-5.525) 23(-0.75,-5.525) 24(-0.25,-5.525) 25(0.25,-5.525) 26(0.75,-5.525) 27(1.25,-5.525) 28(1.75,-5.525) 29(2.25,-5.525) 30(2.75,-5.525) 31(3.25,-5.525) 32(3.75,-5.525) 49(3.75,5.525) 50(3.25,5.525) 51(2.75,5.525) 52(2.25,5.525) 53(1.75,5.525) 54(1.25,5.525) 55(0.75,5.525) 56(0.25,5.525) 57(-0.25,5.525) 58(-0.75,5.525) 59(-1.25,5.525) 60(-1.75,5.525) 61(-2.25,5.525) 62(-2.75,5.525) 63(-3.25,5.525) 64(-3.75,5.525)
  rect 4.15x4.15 smd: 65(0,0)
via -1.65,1.65 diameter 0.5 hole 0.2
via -0.55,1.65 diameter 0.5 hole 0.2
via 0.55,1.65 diameter 0.5 hole 0.2
via 1.65,1.65 diameter 0.5 hole 0.2
via -1.65,0.55 diameter 0.5 hole 0.2
via -0.55,0.55 diameter 0.5 hole 0.2
via 0.55,0.55 diameter 0.5 hole 0.2
via 1.65,0.55 diameter 0.5 hole 0.2
via -1.65,-0.55 diameter 0.5 hole 0.2
via -0.55,-0.55 diameter 0.5 hole 0.2
via 0.55,-0.55 diameter 0.5 hole 0.2
via 1.65,-0.55 diameter 0.5 hole 0.2
via -1.65,-1.65 diameter 0.5 hole 0.2
via -0.55,-1.65 diameter 0.5 hole 0.2
via 0.55,-1.65 diameter 0.5 hole 0.2
via 1.65,-1.65 diameter 0.5 hole 0.2
Top Overlay:
  circle w0.25: c-5.525,4.425 r0.125
  circle w0.6: c-3.35,3.35 r0.3
  lines w0.2: -4.35,-4.35 -4.35,4.35 4.35,4.35 4.35,-4.35 -4.35,-4.35
Mechanical 13:
  circle w0.1: c-4.1,4.1 r0.5
  lines w0.1: -5,-5 -5,5 5,5 5,-5 -5,-5
Mechanical 15:
  lines w0.05: -6.4,-6.4 -6.4,6.4 6.4,6.4 6.4,-6.4 -6.4,-6.4
  lines w0.1: -0.5,0 0.5,0 ; 0,-0.5 0,0.5
3D body: height 1.2, standoff 0.05, extent -5,-5 5,5

## TI-PAP64-3825X3825TP_M [mm] "QFP, 64-Leads, Body 10x10mm, Pitch 0.5mm, Thermal Pad 4.15x4.15mm, IPC Low Density"
height 1.2
pads (65):
  oval 2.1x0.3 smd: 1(-5.6,3.75) 2(-5.6,3.25) 3(-5.6,2.75) 4(-5.6,2.25) 5(-5.6,1.75) 6(-5.6,1.25) 7(-5.6,0.75) 8(-5.6,0.25) 9(-5.6,-0.25) 10(-5.6,-0.75) 11(-5.6,-1.25) 12(-5.6,-1.75) 13(-5.6,-2.25) 14(-5.6,-2.75) 15(-5.6,-3.25) 16(-5.6,-3.75) 33(5.6,-3.75) 34(5.6,-3.25) 35(5.6,-2.75) 36(5.6,-2.25) 37(5.6,-1.75) 38(5.6,-1.25) 39(5.6,-0.75) 40(5.6,-0.25) 41(5.6,0.25) 42(5.6,0.75) 43(5.6,1.25) 44(5.6,1.75) 45(5.6,2.25) 46(5.6,2.75) 47(5.6,3.25) 48(5.6,3.75)
  oval 0.3x2.1 smd: 17(-3.75,-5.6) 18(-3.25,-5.6) 19(-2.75,-5.6) 20(-2.25,-5.6) 21(-1.75,-5.6) 22(-1.25,-5.6) 23(-0.75,-5.6) 24(-0.25,-5.6) 25(0.25,-5.6) 26(0.75,-5.6) 27(1.25,-5.6) 28(1.75,-5.6) 29(2.25,-5.6) 30(2.75,-5.6) 31(3.25,-5.6) 32(3.75,-5.6) 49(3.75,5.6) 50(3.25,5.6) 51(2.75,5.6) 52(2.25,5.6) 53(1.75,5.6) 54(1.25,5.6) 55(0.75,5.6) 56(0.25,5.6) 57(-0.25,5.6) 58(-0.75,5.6) 59(-1.25,5.6) 60(-1.75,5.6) 61(-2.25,5.6) 62(-2.75,5.6) 63(-3.25,5.6) 64(-3.75,5.6)
  rect 4.15x4.15 smd: 65(0,0)
via -1.65,1.65 diameter 0.5 hole 0.2
via -0.55,1.65 diameter 0.5 hole 0.2
via 0.55,1.65 diameter 0.5 hole 0.2
via 1.65,1.65 diameter 0.5 hole 0.2
via -1.65,0.55 diameter 0.5 hole 0.2
via -0.55,0.55 diameter 0.5 hole 0.2
via 0.55,0.55 diameter 0.5 hole 0.2
via 1.65,0.55 diameter 0.5 hole 0.2
via -1.65,-0.55 diameter 0.5 hole 0.2
via -0.55,-0.55 diameter 0.5 hole 0.2
via 0.55,-0.55 diameter 0.5 hole 0.2
via 1.65,-0.55 diameter 0.5 hole 0.2
via -1.65,-1.65 diameter 0.5 hole 0.2
via -0.55,-1.65 diameter 0.5 hole 0.2
via 0.55,-1.65 diameter 0.5 hole 0.2
via 1.65,-1.65 diameter 0.5 hole 0.2
Top Overlay:
  circle w0.25: c-5.6,4.45 r0.125
  circle w0.6: c-3.15,3.15 r0.3
  lines w0.2: -4.15,-4.15 -4.15,4.15 4.15,4.15 4.15,-4.15 -4.15,-4.15
Mechanical 13:
  circle w0.1: c-4.1,4.1 r0.5
  lines w0.1: -5,-5 -5,5 5,5 5,-5 -5,-5
Mechanical 15:
  lines w0.05: -7.15,-7.15 -7.15,7.15 7.15,7.15 7.15,-7.15 -7.15,-7.15
  lines w0.1: -0.5,0 0.5,0 ; 0,-0.5 0,0.5
3D body: height 1.2, standoff 0.05, extent -5,-5 5,5

## TI-PAP64-3825X3825TP_N [mm] "QFP, 64-Leads, Body 10x10mm, Pitch 0.5mm, Thermal Pad 4.15x4.15 mm, IPC Medium Density"
height 1.2
pads (65):
  oval 1.8x0.3 smd: 1(-5.55,3.75) 2(-5.55,3.25) 3(-5.55,2.75) 4(-5.55,2.25) 5(-5.55,1.75) 6(-5.55,1.25) 7(-5.55,0.75) 8(-5.55,0.25) 9(-5.55,-0.25) 10(-5.55,-0.75) 11(-5.55,-1.25) 12(-5.55,-1.75) 13(-5.55,-2.25) 14(-5.55,-2.75) 15(-5.55,-3.25) 16(-5.55,-3.75) 33(5.55,-3.75) 34(5.55,-3.25) 35(5.55,-2.75) 36(5.55,-2.25) 37(5.55,-1.75) 38(5.55,-1.25) 39(5.55,-0.75) 40(5.55,-0.25) 41(5.55,0.25) 42(5.55,0.75) 43(5.55,1.25) 44(5.55,1.75) 45(5.55,2.25) 46(5.55,2.75) 47(5.55,3.25) 48(5.55,3.75)
  oval 0.3x1.8 smd: 17(-3.75,-5.55) 18(-3.25,-5.55) 19(-2.75,-5.55) 20(-2.25,-5.55) 21(-1.75,-5.55) 22(-1.25,-5.55) 23(-0.75,-5.55) 24(-0.25,-5.55) 25(0.25,-5.55) 26(0.75,-5.55) 27(1.25,-5.55) 28(1.75,-5.55) 29(2.25,-5.55) 30(2.75,-5.55) 31(3.25,-5.55) 32(3.75,-5.55) 49(3.75,5.55) 50(3.25,5.55) 51(2.75,5.55) 52(2.25,5.55) 53(1.75,5.55) 54(1.25,5.55) 55(0.75,5.55) 56(0.25,5.55) 57(-0.25,5.55) 58(-0.75,5.55) 59(-1.25,5.55) 60(-1.75,5.55) 61(-2.25,5.55) 62(-2.75,5.55) 63(-3.25,5.55) 64(-3.75,5.55)
  rect 4.15x4.15 smd: 65(0,0)
via -1.65,1.65 diameter 0.5 hole 0.2
via -0.55,1.65 diameter 0.5 hole 0.2
via 0.55,1.65 diameter 0.5 hole 0.2
via 1.65,1.65 diameter 0.5 hole 0.2
via -1.65,0.55 diameter 0.5 hole 0.2
via -0.55,0.55 diameter 0.5 hole 0.2
via 0.55,0.55 diameter 0.5 hole 0.2
via 1.65,0.55 diameter 0.5 hole 0.2
via -1.65,-0.55 diameter 0.5 hole 0.2
via -0.55,-0.55 diameter 0.5 hole 0.2
via 0.55,-0.55 diameter 0.5 hole 0.2
via 1.65,-0.55 diameter 0.5 hole 0.2
via -1.65,-1.65 diameter 0.5 hole 0.2
via -0.55,-1.65 diameter 0.5 hole 0.2
via 0.55,-1.65 diameter 0.5 hole 0.2
via 1.65,-1.65 diameter 0.5 hole 0.2
Top Overlay:
  circle w0.25: c-5.55,4.45 r0.125
  circle w0.6: c-3.25,3.25 r0.3
  lines w0.2: -4.25,-4.25 -4.25,4.25 4.25,4.25 4.25,-4.25 -4.25,-4.25
Mechanical 13:
  circle w0.1: c-4.1,4.1 r0.5
  lines w0.1: -5,-5 -5,5 5,5 5,-5 -5,-5
Mechanical 15:
  lines w0.05: -6.7,-6.7 -6.7,6.7 6.7,6.7 6.7,-6.7 -6.7,-6.7
  lines w0.1: -0.5,0 0.5,0 ; 0,-0.5 0,0.5
3D body: height 1.2, standoff 0.05, extent -5,-5 5,5

## TI-PAP64-4130X4130TP_L [mm] "QFP, 64-Leads, Body 10x10mm, Pitch 0.5mm, Thermal Pad 4.15x4.15mm, IPC High Density"
height 1.2
pads (65):
  oval 1.55x0.25 smd: 1(-5.525,3.75) 2(-5.525,3.25) 3(-5.525,2.75) 4(-5.525,2.25) 5(-5.525,1.75) 6(-5.525,1.25) 7(-5.525,0.75) 8(-5.525,0.25) 9(-5.525,-0.25) 10(-5.525,-0.75) 11(-5.525,-1.25) 12(-5.525,-1.75) 13(-5.525,-2.25) 14(-5.525,-2.75) 15(-5.525,-3.25) 16(-5.525,-3.75) 33(5.525,-3.75) 34(5.525,-3.25) 35(5.525,-2.75) 36(5.525,-2.25) 37(5.525,-1.75) 38(5.525,-1.25) 39(5.525,-0.75) 40(5.525,-0.25) 41(5.525,0.25) 42(5.525,0.75) 43(5.525,1.25) 44(5.525,1.75) 45(5.525,2.25) 46(5.525,2.75) 47(5.525,3.25) 48(5.525,3.75)
  oval 0.25x1.55 smd: 17(-3.75,-5.525) 18(-3.25,-5.525) 19(-2.75,-5.525) 20(-2.25,-5.525) 21(-1.75,-5.525) 22(-1.25,-5.525) 23(-0.75,-5.525) 24(-0.25,-5.525) 25(0.25,-5.525) 26(0.75,-5.525) 27(1.25,-5.525) 28(1.75,-5.525) 29(2.25,-5.525) 30(2.75,-5.525) 31(3.25,-5.525) 32(3.75,-5.525) 49(3.75,5.525) 50(3.25,5.525) 51(2.75,5.525) 52(2.25,5.525) 53(1.75,5.525) 54(1.25,5.525) 55(0.75,5.525) 56(0.25,5.525) 57(-0.25,5.525) 58(-0.75,5.525) 59(-1.25,5.525) 60(-1.75,5.525) 61(-2.25,5.525) 62(-2.75,5.525) 63(-3.25,5.525) 64(-3.75,5.525)
  rect 4.15x4.15 smd: 65(0,0)
via -1.65,1.65 diameter 0.5 hole 0.2
via -0.55,1.65 diameter 0.5 hole 0.2
via 0.55,1.65 diameter 0.5 hole 0.2
via 1.65,1.65 diameter 0.5 hole 0.2
via -1.65,0.55 diameter 0.5 hole 0.2
via -0.55,0.55 diameter 0.5 hole 0.2
via 0.55,0.55 diameter 0.5 hole 0.2
via 1.65,0.55 diameter 0.5 hole 0.2
via -1.65,-0.55 diameter 0.5 hole 0.2
via -0.55,-0.55 diameter 0.5 hole 0.2
via 0.55,-0.55 diameter 0.5 hole 0.2
via 1.65,-0.55 diameter 0.5 hole 0.2
via -1.65,-1.65 diameter 0.5 hole 0.2
via -0.55,-1.65 diameter 0.5 hole 0.2
via 0.55,-1.65 diameter 0.5 hole 0.2
via 1.65,-1.65 diameter 0.5 hole 0.2
Top Overlay:
  circle w0.25: c-5.525,4.425 r0.125
  circle w0.6: c-3.35,3.35 r0.3
  lines w0.2: -4.35,-4.35 -4.35,4.35 4.35,4.35 4.35,-4.35 -4.35,-4.35
Mechanical 13:
  circle w0.1: c-4.1,4.1 r0.5
  lines w0.1: -5,-5 -5,5 5,5 5,-5 -5,-5
Mechanical 15:
  lines w0.05: -6.4,-6.4 -6.4,6.4 6.4,6.4 6.4,-6.4 -6.4,-6.4
  lines w0.1: -0.5,0 0.5,0 ; 0,-0.5 0,0.5
3D body: height 1.2, standoff 0.05, extent -5,-5 5,5

## TI-PAP64-4130X4130TP_M [mm] "QFP, 64-Leads, Body 10x10mm, Pitch 0.5mm, Thermal Pad 4.15x4.15mm, IPC Low Density"
height 1.2
pads (65):
  oval 2.1x0.3 smd: 1(-5.6,3.75) 2(-5.6,3.25) 3(-5.6,2.75) 4(-5.6,2.25) 5(-5.6,1.75) 6(-5.6,1.25) 7(-5.6,0.75) 8(-5.6,0.25) 9(-5.6,-0.25) 10(-5.6,-0.75) 11(-5.6,-1.25) 12(-5.6,-1.75) 13(-5.6,-2.25) 14(-5.6,-2.75) 15(-5.6,-3.25) 16(-5.6,-3.75) 33(5.6,-3.75) 34(5.6,-3.25) 35(5.6,-2.75) 36(5.6,-2.25) 37(5.6,-1.75) 38(5.6,-1.25) 39(5.6,-0.75) 40(5.6,-0.25) 41(5.6,0.25) 42(5.6,0.75) 43(5.6,1.25) 44(5.6,1.75) 45(5.6,2.25) 46(5.6,2.75) 47(5.6,3.25) 48(5.6,3.75)
  oval 0.3x2.1 smd: 17(-3.75,-5.6) 18(-3.25,-5.6) 19(-2.75,-5.6) 20(-2.25,-5.6) 21(-1.75,-5.6) 22(-1.25,-5.6) 23(-0.75,-5.6) 24(-0.25,-5.6) 25(0.25,-5.6) 26(0.75,-5.6) 27(1.25,-5.6) 28(1.75,-5.6) 29(2.25,-5.6) 30(2.75,-5.6) 31(3.25,-5.6) 32(3.75,-5.6) 49(3.75,5.6) 50(3.25,5.6) 51(2.75,5.6) 52(2.25,5.6) 53(1.75,5.6) 54(1.25,5.6) 55(0.75,5.6) 56(0.25,5.6) 57(-0.25,5.6) 58(-0.75,5.6) 59(-1.25,5.6) 60(-1.75,5.6) 61(-2.25,5.6) 62(-2.75,5.6) 63(-3.25,5.6) 64(-3.75,5.6)
  rect 4.15x4.15 smd: 65(0,0)
via -1.65,1.65 diameter 0.5 hole 0.2
via -0.55,1.65 diameter 0.5 hole 0.2
via 0.55,1.65 diameter 0.5 hole 0.2
via 1.65,1.65 diameter 0.5 hole 0.2
via -1.65,0.55 diameter 0.5 hole 0.2
via -0.55,0.55 diameter 0.5 hole 0.2
via 0.55,0.55 diameter 0.5 hole 0.2
via 1.65,0.55 diameter 0.5 hole 0.2
via -1.65,-0.55 diameter 0.5 hole 0.2
via -0.55,-0.55 diameter 0.5 hole 0.2
via 0.55,-0.55 diameter 0.5 hole 0.2
via 1.65,-0.55 diameter 0.5 hole 0.2
via -1.65,-1.65 diameter 0.5 hole 0.2
via -0.55,-1.65 diameter 0.5 hole 0.2
via 0.55,-1.65 diameter 0.5 hole 0.2
via 1.65,-1.65 diameter 0.5 hole 0.2
Top Overlay:
  circle w0.25: c-5.6,4.45 r0.125
  circle w0.6: c-3.15,3.15 r0.3
  lines w0.2: -4.15,-4.15 -4.15,4.15 4.15,4.15 4.15,-4.15 -4.15,-4.15
Mechanical 13:
  circle w0.1: c-4.1,4.1 r0.5
  lines w0.1: -5,-5 -5,5 5,5 5,-5 -5,-5
Mechanical 15:
  lines w0.05: -7.15,-7.15 -7.15,7.15 7.15,7.15 7.15,-7.15 -7.15,-7.15
  lines w0.1: -0.5,0 0.5,0 ; 0,-0.5 0,0.5
3D body: height 1.2, standoff 0.05, extent -5,-5 5,5

## TI-PAP64-4130X4130TP_N [mm] "QFP, 64-Leads, Body 10x10mm, Pitch 0.5mm, Thermal Pad 4.15x4.15mm, IPC Medium Density"
height 1.2
pads (65):
  oval 1.8x0.3 smd: 1(-5.55,3.75) 2(-5.55,3.25) 3(-5.55,2.75) 4(-5.55,2.25) 5(-5.55,1.75) 6(-5.55,1.25) 7(-5.55,0.75) 8(-5.55,0.25) 9(-5.55,-0.25) 10(-5.55,-0.75) 11(-5.55,-1.25) 12(-5.55,-1.75) 13(-5.55,-2.25) 14(-5.55,-2.75) 15(-5.55,-3.25) 16(-5.55,-3.75) 33(5.55,-3.75) 34(5.55,-3.25) 35(5.55,-2.75) 36(5.55,-2.25) 37(5.55,-1.75) 38(5.55,-1.25) 39(5.55,-0.75) 40(5.55,-0.25) 41(5.55,0.25) 42(5.55,0.75) 43(5.55,1.25) 44(5.55,1.75) 45(5.55,2.25) 46(5.55,2.75) 47(5.55,3.25) 48(5.55,3.75)
  oval 0.3x1.8 smd: 17(-3.75,-5.55) 18(-3.25,-5.55) 19(-2.75,-5.55) 20(-2.25,-5.55) 21(-1.75,-5.55) 22(-1.25,-5.55) 23(-0.75,-5.55) 24(-0.25,-5.55) 25(0.25,-5.55) 26(0.75,-5.55) 27(1.25,-5.55) 28(1.75,-5.55) 29(2.25,-5.55) 30(2.75,-5.55) 31(3.25,-5.55) 32(3.75,-5.55) 49(3.75,5.55) 50(3.25,5.55) 51(2.75,5.55) 52(2.25,5.55) 53(1.75,5.55) 54(1.25,5.55) 55(0.75,5.55) 56(0.25,5.55) 57(-0.25,5.55) 58(-0.75,5.55) 59(-1.25,5.55) 60(-1.75,5.55) 61(-2.25,5.55) 62(-2.75,5.55) 63(-3.25,5.55) 64(-3.75,5.55)
  rect 4.15x4.15 smd: 65(0,0)
via -1.65,1.65 diameter 0.5 hole 0.2
via -0.55,1.65 diameter 0.5 hole 0.2
via 0.55,1.65 diameter 0.5 hole 0.2
via 1.65,1.65 diameter 0.5 hole 0.2
via -1.65,0.55 diameter 0.5 hole 0.2
via -0.55,0.55 diameter 0.5 hole 0.2
via 0.55,0.55 diameter 0.5 hole 0.2
via 1.65,0.55 diameter 0.5 hole 0.2
via -1.65,-0.55 diameter 0.5 hole 0.2
via -0.55,-0.55 diameter 0.5 hole 0.2
via 0.55,-0.55 diameter 0.5 hole 0.2
via 1.65,-0.55 diameter 0.5 hole 0.2
via -1.65,-1.65 diameter 0.5 hole 0.2
via -0.55,-1.65 diameter 0.5 hole 0.2
via 0.55,-1.65 diameter 0.5 hole 0.2
via 1.65,-1.65 diameter 0.5 hole 0.2
Top Overlay:
  circle w0.25: c-5.55,4.45 r0.125
  circle w0.6: c-3.25,3.25 r0.3
  lines w0.2: -4.25,-4.25 -4.25,4.25 4.25,4.25 4.25,-4.25 -4.25,-4.25
Mechanical 13:
  circle w0.1: c-4.1,4.1 r0.5
  lines w0.1: -5,-5 -5,5 5,5 5,-5 -5,-5
Mechanical 15:
  lines w0.05: -6.7,-6.7 -6.7,6.7 6.7,6.7 6.7,-6.7 -6.7,-6.7
  lines w0.1: -0.5,0 0.5,0 ; 0,-0.5 0,0.5
3D body: height 1.2, standoff 0.05, extent -5,-5 5,5

## TI-PAP64-5900X5900TP_L [mm] "QFP, 64-Leads, Body 10x10mm, Pitch 0.5mm, Thermal Pad 6.5x6.5mm, IPC High Density"
height 1.2
pads (65):
  oval 1.55x0.25 smd: 1(-5.525,3.75) 2(-5.525,3.25) 3(-5.525,2.75) 4(-5.525,2.25) 5(-5.525,1.75) 6(-5.525,1.25) 7(-5.525,0.75) 8(-5.525,0.25) 9(-5.525,-0.25) 10(-5.525,-0.75) 11(-5.525,-1.25) 12(-5.525,-1.75) 13(-5.525,-2.25) 14(-5.525,-2.75) 15(-5.525,-3.25) 16(-5.525,-3.75) 33(5.525,-3.75) 34(5.525,-3.25) 35(5.525,-2.75) 36(5.525,-2.25) 37(5.525,-1.75) 38(5.525,-1.25) 39(5.525,-0.75) 40(5.525,-0.25) 41(5.525,0.25) 42(5.525,0.75) 43(5.525,1.25) 44(5.525,1.75) 45(5.525,2.25) 46(5.525,2.75) 47(5.525,3.25) 48(5.525,3.75)
  oval 0.25x1.55 smd: 17(-3.75,-5.525) 18(-3.25,-5.525) 19(-2.75,-5.525) 20(-2.25,-5.525) 21(-1.75,-5.525) 22(-1.25,-5.525) 23(-0.75,-5.525) 24(-0.25,-5.525) 25(0.25,-5.525) 26(0.75,-5.525) 27(1.25,-5.525) 28(1.75,-5.525) 29(2.25,-5.525) 30(2.75,-5.525) 31(3.25,-5.525) 32(3.75,-5.525) 49(3.75,5.525) 50(3.25,5.525) 51(2.75,5.525) 52(2.25,5.525) 53(1.75,5.525) 54(1.25,5.525) 55(0.75,5.525) 56(0.25,5.525) 57(-0.25,5.525) 58(-0.75,5.525) 59(-1.25,5.525) 60(-1.75,5.525) 61(-2.25,5.525) 62(-2.75,5.525) 63(-3.25,5.525) 64(-3.75,5.525)
  rect 6.5x6.5 smd: 65(0,0)
via 2.75,-2.75 diameter 0.5 hole 0.2
via 1.65,-2.75 diameter 0.5 hole 0.2
via 0.55,-2.75 diameter 0.5 hole 0.2
via -0.55,-2.75 diameter 0.5 hole 0.2
via -1.65,-2.75 diameter 0.5 hole 0.2
via -2.75,-2.75 diameter 0.5 hole 0.2
via 2.75,-1.65 diameter 0.5 hole 0.2
via 1.65,-1.65 diameter 0.5 hole 0.2
via 0.55,-1.65 diameter 0.5 hole 0.2
via -0.55,-1.65 diameter 0.5 hole 0.2
via -1.65,-1.65 diameter 0.5 hole 0.2
via -2.75,-1.65 diameter 0.5 hole 0.2
via 2.75,-0.55 diameter 0.5 hole 0.2
via 1.65,-0.55 diameter 0.5 hole 0.2
via 0.55,-0.55 diameter 0.5 hole 0.2
via -0.55,-0.55 diameter 0.5 hole 0.2
via -1.65,-0.55 diameter 0.5 hole 0.2
via -2.75,-0.55 diameter 0.5 hole 0.2
via 2.75,0.55 diameter 0.5 hole 0.2
via 1.65,0.55 diameter 0.5 hole 0.2
via 0.55,0.55 diameter 0.5 hole 0.2
via -0.55,0.55 diameter 0.5 hole 0.2
via -1.65,0.55 diameter 0.5 hole 0.2
via -2.75,0.55 diameter 0.5 hole 0.2
via 2.75,1.65 diameter 0.5 hole 0.2
via 1.65,1.65 diameter 0.5 hole 0.2
via 0.55,1.65 diameter 0.5 hole 0.2
via -0.55,1.65 diameter 0.5 hole 0.2
via -1.65,1.65 diameter 0.5 hole 0.2
via -2.75,1.65 diameter 0.5 hole 0.2
via 2.75,2.75 diameter 0.5 hole 0.2
via 1.65,2.75 diameter 0.5 hole 0.2
via 0.55,2.75 diameter 0.5 hole 0.2
via -0.55,2.75 diameter 0.5 hole 0.2
via -1.65,2.75 diameter 0.5 hole 0.2
via -2.75,2.75 diameter 0.5 hole 0.2
Top Overlay:
  circle w0.25: c-5.525,4.425 r0.125
  lines w0.2: -4.35,-4.35 4.35,-4.35 4.35,4.35 -4.35,4.35 -4.35,-4.35
Mechanical 13:
  circle w0.1: c-4.1,4.1 r0.5
  lines w0.1: -5,-5 5,-5 5,5 -5,5 -5,-5
Mechanical 15:
  lines w0.05: -6.4,-6.4 6.4,-6.4 6.4,6.4 -6.4,6.4 -6.4,-6.4
  lines w0.1: -0.5,0 0.5,0 ; 0,-0.5 0,0.5
3D body: height 1.2, standoff 0.05, extent -5,-5 5,5

## TI-PAP64-5900X5900TP_M [mm] "QFP, 64-Leads, Body 10x10mm, Pitch 0.5mm, Thermal Pad 6.5x6.5mm, IPC Low Density"
height 1.2
pads (65):
  oval 2.1x0.3 smd: 1(-5.6,3.75) 2(-5.6,3.25) 3(-5.6,2.75) 4(-5.6,2.25) 5(-5.6,1.75) 6(-5.6,1.25) 7(-5.6,0.75) 8(-5.6,0.25) 9(-5.6,-0.25) 10(-5.6,-0.75) 11(-5.6,-1.25) 12(-5.6,-1.75) 13(-5.6,-2.25) 14(-5.6,-2.75) 15(-5.6,-3.25) 16(-5.6,-3.75) 33(5.6,-3.75) 34(5.6,-3.25) 35(5.6,-2.75) 36(5.6,-2.25) 37(5.6,-1.75) 38(5.6,-1.25) 39(5.6,-0.75) 40(5.6,-0.25) 41(5.6,0.25) 42(5.6,0.75) 43(5.6,1.25) 44(5.6,1.75) 45(5.6,2.25) 46(5.6,2.75) 47(5.6,3.25) 48(5.6,3.75)
  oval 0.3x2.1 smd: 17(-3.75,-5.6) 18(-3.25,-5.6) 19(-2.75,-5.6) 20(-2.25,-5.6) 21(-1.75,-5.6) 22(-1.25,-5.6) 23(-0.75,-5.6) 24(-0.25,-5.6) 25(0.25,-5.6) 26(0.75,-5.6) 27(1.25,-5.6) 28(1.75,-5.6) 29(2.25,-5.6) 30(2.75,-5.6) 31(3.25,-5.6) 32(3.75,-5.6) 49(3.75,5.6) 50(3.25,5.6) 51(2.75,5.6) 52(2.25,5.6) 53(1.75,5.6) 54(1.25,5.6) 55(0.75,5.6) 56(0.25,5.6) 57(-0.25,5.6) 58(-0.75,5.6) 59(-1.25,5.6) 60(-1.75,5.6) 61(-2.25,5.6) 62(-2.75,5.6) 63(-3.25,5.6) 64(-3.75,5.6)
  rect 6.5x6.5 smd: 65(0,0)
via 2.75,-2.75 diameter 0.5 hole 0.2
via 1.65,-2.75 diameter 0.5 hole 0.2
via 0.55,-2.75 diameter 0.5 hole 0.2
via -0.55,-2.75 diameter 0.5 hole 0.2
via -1.65,-2.75 diameter 0.5 hole 0.2
via -2.75,-2.75 diameter 0.5 hole 0.2
via 2.75,-1.65 diameter 0.5 hole 0.2
via 1.65,-1.65 diameter 0.5 hole 0.2
via 0.55,-1.65 diameter 0.5 hole 0.2
via -0.55,-1.65 diameter 0.5 hole 0.2
via -1.65,-1.65 diameter 0.5 hole 0.2
via -2.75,-1.65 diameter 0.5 hole 0.2
via 2.75,-0.55 diameter 0.5 hole 0.2
via 1.65,-0.55 diameter 0.5 hole 0.2
via 0.55,-0.55 diameter 0.5 hole 0.2
via -0.55,-0.55 diameter 0.5 hole 0.2
via -1.65,-0.55 diameter 0.5 hole 0.2
via -2.75,-0.55 diameter 0.5 hole 0.2
via 2.75,0.55 diameter 0.5 hole 0.2
via 1.65,0.55 diameter 0.5 hole 0.2
via 0.55,0.55 diameter 0.5 hole 0.2
via -0.55,0.55 diameter 0.5 hole 0.2
via -1.65,0.55 diameter 0.5 hole 0.2
via -2.75,0.55 diameter 0.5 hole 0.2
via 2.75,1.65 diameter 0.5 hole 0.2
via 1.65,1.65 diameter 0.5 hole 0.2
via 0.55,1.65 diameter 0.5 hole 0.2
via -0.55,1.65 diameter 0.5 hole 0.2
via -1.65,1.65 diameter 0.5 hole 0.2
via -2.75,1.65 diameter 0.5 hole 0.2
via 2.75,2.75 diameter 0.5 hole 0.2
via 1.65,2.75 diameter 0.5 hole 0.2
via 0.55,2.75 diameter 0.5 hole 0.2
via -0.55,2.75 diameter 0.5 hole 0.2
via -1.65,2.75 diameter 0.5 hole 0.2
via -2.75,2.75 diameter 0.5 hole 0.2
Top Overlay:
  circle w0.25: c-5.6,4.45 r0.125
  lines w0.2: -4.15,-4.15 4.15,-4.15 4.15,4.15 -4.15,4.15 -4.15,-4.15
Mechanical 13:
  circle w0.1: c-4.1,4.1 r0.5
  lines w0.1: -5,-5 5,-5 5,5 -5,5 -5,-5
Mechanical 15:
  lines w0.05: -7.15,-7.15 7.15,-7.15 7.15,7.15 -7.15,7.15 -7.15,-7.15
  lines w0.1: -0.5,0 0.5,0 ; 0,-0.5 0,0.5
3D body: height 1.2, standoff 0.05, extent -5,-5 5,5

## TI-PAP64-5900X5900TP_N [mm] "QFP, 64-Leads, Body 10x10mm, Pitch 0.5mm, Thermal Pad 6.5x6.5mm, IPC Medium Density"
height 1.2
pads (65):
  oval 1.8x0.3 smd: 1(-5.55,3.75) 2(-5.55,3.25) 3(-5.55,2.75) 4(-5.55,2.25) 5(-5.55,1.75) 6(-5.55,1.25) 7(-5.55,0.75) 8(-5.55,0.25) 9(-5.55,-0.25) 10(-5.55,-0.75) 11(-5.55,-1.25) 12(-5.55,-1.75) 13(-5.55,-2.25) 14(-5.55,-2.75) 15(-5.55,-3.25) 16(-5.55,-3.75) 33(5.55,-3.75) 34(5.55,-3.25) 35(5.55,-2.75) 36(5.55,-2.25) 37(5.55,-1.75) 38(5.55,-1.25) 39(5.55,-0.75) 40(5.55,-0.25) 41(5.55,0.25) 42(5.55,0.75) 43(5.55,1.25) 44(5.55,1.75) 45(5.55,2.25) 46(5.55,2.75) 47(5.55,3.25) 48(5.55,3.75)
  oval 0.3x1.8 smd: 17(-3.75,-5.55) 18(-3.25,-5.55) 19(-2.75,-5.55) 20(-2.25,-5.55) 21(-1.75,-5.55) 22(-1.25,-5.55) 23(-0.75,-5.55) 24(-0.25,-5.55) 25(0.25,-5.55) 26(0.75,-5.55) 27(1.25,-5.55) 28(1.75,-5.55) 29(2.25,-5.55) 30(2.75,-5.55) 31(3.25,-5.55) 32(3.75,-5.55) 49(3.75,5.55) 50(3.25,5.55) 51(2.75,5.55) 52(2.25,5.55) 53(1.75,5.55) 54(1.25,5.55) 55(0.75,5.55) 56(0.25,5.55) 57(-0.25,5.55) 58(-0.75,5.55) 59(-1.25,5.55) 60(-1.75,5.55) 61(-2.25,5.55) 62(-2.75,5.55) 63(-3.25,5.55) 64(-3.75,5.55)
  rect 6.5x6.5 smd: 65(0,0)
via -2.75,2.75 diameter 0.5 hole 0.2
via -1.65,2.75 diameter 0.5 hole 0.2
via -0.55,2.75 diameter 0.5 hole 0.2
via 0.55,2.75 diameter 0.5 hole 0.2
via 1.65,2.75 diameter 0.5 hole 0.2
via 2.75,2.75 diameter 0.5 hole 0.2
via -2.75,1.65 diameter 0.5 hole 0.2
via -1.65,1.65 diameter 0.5 hole 0.2
via -0.55,1.65 diameter 0.5 hole 0.2
via 0.55,1.65 diameter 0.5 hole 0.2
via 1.65,1.65 diameter 0.5 hole 0.2
via 2.75,1.65 diameter 0.5 hole 0.2
via -2.75,0.55 diameter 0.5 hole 0.2
via -1.65,0.55 diameter 0.5 hole 0.2
via -0.55,0.55 diameter 0.5 hole 0.2
via 0.55,0.55 diameter 0.5 hole 0.2
via 1.65,0.55 diameter 0.5 hole 0.2
via 2.75,0.55 diameter 0.5 hole 0.2
via -2.75,-0.55 diameter 0.5 hole 0.2
via -1.65,-0.55 diameter 0.5 hole 0.2
via -0.55,-0.55 diameter 0.5 hole 0.2
via 0.55,-0.55 diameter 0.5 hole 0.2
via 1.65,-0.55 diameter 0.5 hole 0.2
via 2.75,-0.55 diameter 0.5 hole 0.2
via -2.75,-1.65 diameter 0.5 hole 0.2
via -1.65,-1.65 diameter 0.5 hole 0.2
via -0.55,-1.65 diameter 0.5 hole 0.2
via 0.55,-1.65 diameter 0.5 hole 0.2
via 1.65,-1.65 diameter 0.5 hole 0.2
via 2.75,-1.65 diameter 0.5 hole 0.2
via -2.75,-2.75 diameter 0.5 hole 0.2
via -1.65,-2.75 diameter 0.5 hole 0.2
via -0.55,-2.75 diameter 0.5 hole 0.2
via 0.55,-2.75 diameter 0.5 hole 0.2
via 1.65,-2.75 diameter 0.5 hole 0.2
via 2.75,-2.75 diameter 0.5 hole 0.2
Top Overlay:
  circle w0.25: c-5.55,4.45 r0.125
  lines w0.2: -4.25,-4.25 -4.25,4.25 4.25,4.25 4.25,-4.25 -4.25,-4.25
Mechanical 13:
  circle w0.1: c-4.1,4.1 r0.5
  lines w0.1: -5,-5 -5,5 5,5 5,-5 -5,-5
Mechanical 15:
  lines w0.05: -6.7,-6.7 -6.7,6.7 6.7,6.7 6.7,-6.7 -6.7,-6.7
  lines w0.1: -0.5,0 0.5,0 ; 0,-0.5 0,0.5
3D body: height 1.2, standoff 0.05, extent -5,-5 5,5